# Altium schematic symbol library SCH - ARM CORTEX - STM STM32F030F4Px.SchLib: 1 symbol
Pins are listed as number, name and electrical type; pins without a type are passive.

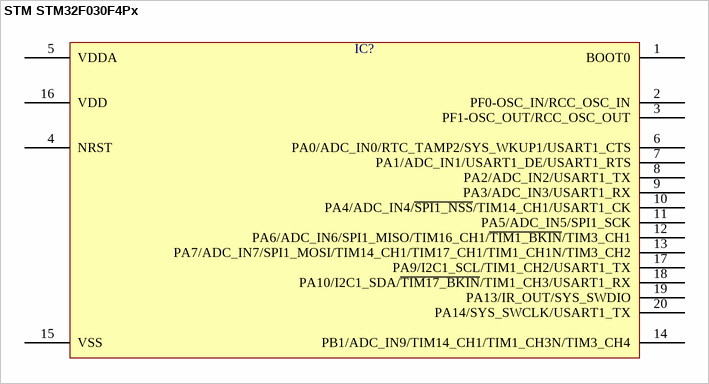
[diagram p0: symbol STM STM32F030F4Px]

## STM STM32F030F4Px
designator IC?  (value not drawn)
pins: 1 BOOT0, 2 PF0-OSC_IN/RCC_OSC_IN, 3 PF1-OSC_OUT/RCC_OSC_OUT, 4 NRST, 5 VDDA, 6 PA0/ADC_IN0/RTC_TAMP2/SYS_WKUP1/USART1_CTS, 7 PA1/ADC_IN1/USART1_DE/USART1_RTS, 8 PA2/ADC_IN2/USART1_TX, 9 PA3/ADC_IN3/USART1_RX, 10 PA4/ADC_IN4/~{SPI1_NSS}/TIM14_CH1/USART1_CK, 11 PA5/ADC_IN5/SPI1_SCK, 12 PA6/ADC_IN6/SPI1_MISO/TIM16_CH1/~{TIM1_BKIN}/TIM3_CH1, 13 PA7/ADC_IN7/SPI1_MOSI/TIM14_CH1/TIM17_CH1/TIM1_CH1N/TIM3_CH2, 14 PB1/ADC_IN9/TIM14_CH1/TIM1_CH3N/TIM3_CH4, 15 VSS, 16 VDD, 17 PA9/I2C1_SCL/TIM1_CH2/USART1_TX, 18 PA10/I2C1_SDA/~{TIM17_BKIN}/TIM1_CH3/USART1_RX, 19 PA13/IR_OUT/SYS_SWDIO, 20 PA14/SYS_SWCLK/USART1_TX